# Altium footprint library 8SOP(Exposed_Pad).PcbLib: 1 footprints
Each footprint in its own frame and in the unit in brackets; x right, y up, seen from the top. Pads: shape width x height; smd on the part's side, far side on the other; paste and mask are expansions set on the pad; w line width, h text height; cw(c..) or ccw(c..) is an arc to the next point about the centre after c.
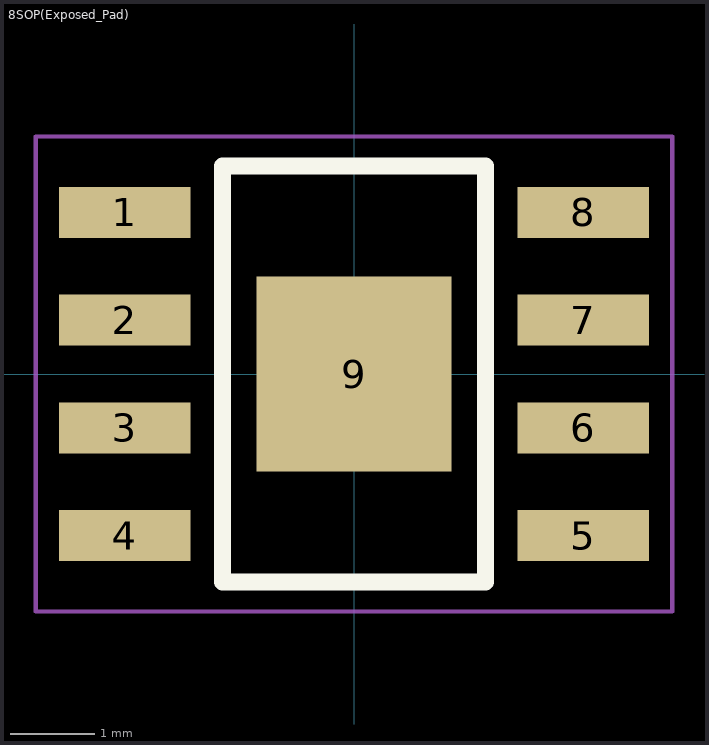
[diagram p0: the footprint, top view; thin cyan lines are the x and y axes]

## 8SOP(Exposed_Pad) [mm]
pads (9):
  rect 1.55x0.6 smd: 1(-2.7,1.905) 2(-2.7,0.635) 3(-2.7,-0.635) 4(-2.7,-1.905) 5(2.7,-1.905) 6(2.7,-0.635) 7(2.7,0.635) 8(2.7,1.905)
  rect 2.3x2.3 smd paste-2: 9(0,0)
Top Overlay:
  lines w0.2: -1.55,-2.45 -1.55,2.45 1.55,2.45 1.55,-2.45 -1.55,-2.45
Top Paste:
  region: 0.725,-0.726 -0.726,-0.726 -0.726,0.725 0.725,0.725
Mechanical 15:
  lines w0.05: -3.75,-2.8 -3.75,2.8 3.75,2.8 3.75,-2.8 -3.75,-2.8
3D body "RT8279GSP.STEP": height 1.75, standoff 0, extent -2.998,-2.451 2.998,2.451